# Altium footprint library Switch.PcbLib: 2 footprints
Each footprint in its own frame and in the unit in brackets; x right, y up, seen from the top. Pads: shape width x height; smd on the part's side, far side on the other; paste and mask are expansions set on the pad; w line width, h text height; cw(c..) or ccw(c..) is an arc to the next point about the centre after c.
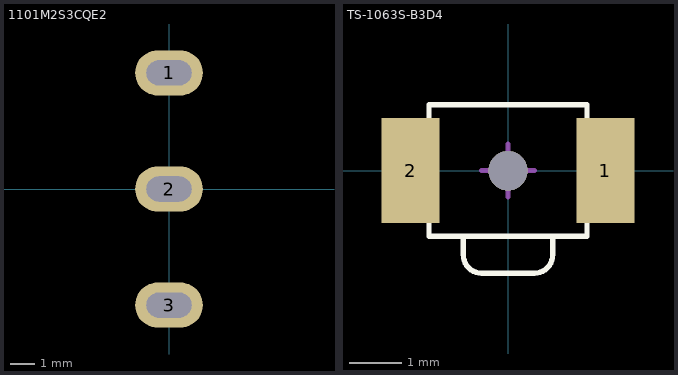
[diagram p0: the footprints below, top view; thin cyan lines are the x and y axes]

## 1101M2S3CQE2 [mil]
pads (3):
  oval 108x72 hole 40 slot 72 at 0 deg: 1(0,185) 2(0,0) 3(0,-185)
Top Component Center:
  lines w3.94: -19.68,0 19.69,0 ; 0,-19.68 0,19.69
3D body "1101M2S3CQE2_Ver.01.SLDPRT": height 528, standoff -174.82, extent -136,-250 136,250

## TS-1063S-B3D4 [mm] "Side push, surface mount, button"
pads (2):
  rect 1.1x2 smd: 1(1.85,0) 2(-1.85,0)
via 0,0 diameter 0.75 hole 0.75
Top Overlay:
  lines w0.102: -1.5,-1 -1.5,-1.25 1.5,-1.25 1.5,-1 ; -1.5,1 -1.5,1.25 1.5,1.25 1.5,1 ; -0.85,-1.25 -0.85,-1.6 ccw(c-0.5,-1.6) -0.5,-1.95 0.5,-1.95 ccw(c0.5,-1.6) 0.85,-1.6 0.85,-1.25
Top Component Center:
  lines w0.1: -0.5,0 0.5,0 ; 0,-0.5 0,0.5
3D body: height 1.3, standoff 0, extent -1.5,-1.25 1.5,1.25
3D body: height 1.2, standoff 0, extent -0.85,-1.95 0.85,-1.25